# Altium schematic symbol library MOLEX_1054302105.SchLib: 1 symbol
Pins are listed as number, name and electrical type; pins without a type are passive.

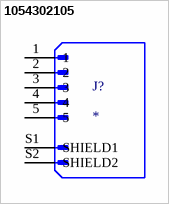
[diagram p0: symbol 1054302105]

## 1054302105
designator J?
Nano-Fit Right-Angle Header, Surface Mount, 2.50mm Pitch, Single Row, 5 Circuits, 0.76Î¼m Tin (Sn) Plating, Black, Glow-Wire Capable; MP: 1054302105; Availability: Unavailable; Value: *; Package: None; Price: None
footprint MOLEX_1054302105
pins: 1, 2, 3, 4, 5, S1 SHIELD1, S2 SHIELD2